# Altium footprint library MOS motor driving module.PcbLib: 14 footprints
Each footprint in its own frame and in the unit in brackets; x right, y up, seen from the top. Pads: shape width x height; smd on the part's side, far side on the other; paste and mask are expansions set on the pad; w line width, h text height; cw(c..) or ccw(c..) is an arc to the next point about the centre after c.
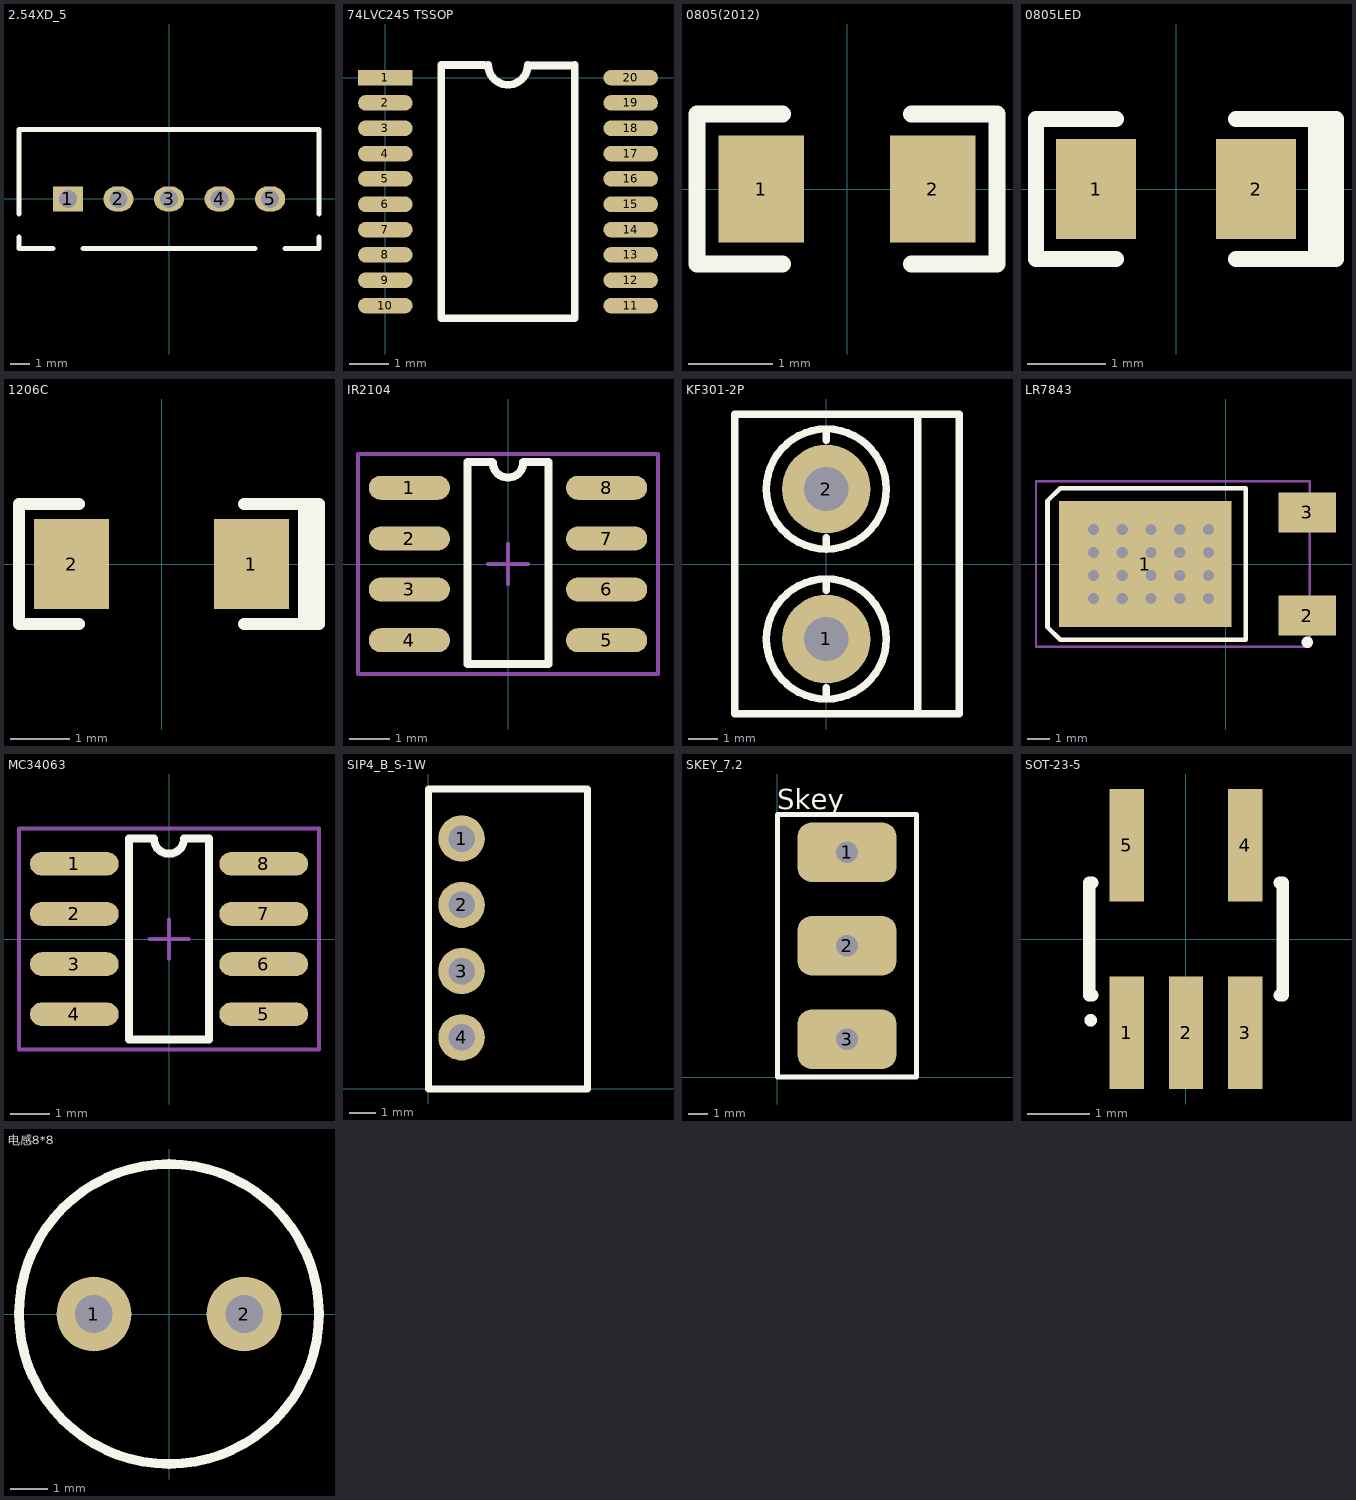
[diagram p0: the footprints below, top view; thin cyan lines are the x and y axes]

## 2.54XD_5 [mm]
pads (5):
  rect 1.5x1.27 hole 0.9: 1(-5.08,0)
  oval 1.5x1.27 hole 0.9: 2(-2.54,0) 3(0,0) 4(2.54,0)
  oval 1.524x1.27 hole 0.9: 5(5.08,0)
Top Overlay:
  lines w0.254: -7.54,-1.905 -7.54,-2.5 -5.842,-2.5 ; -7.54,-0.762 -7.54,3.5 7.54,3.5 7.54,-0.762 ; -4.318,-2.5 4.318,-2.5 ; 5.842,-2.5 7.54,-2.5 7.54,-1.905

## 74LVC245 TSSOP [mm]
pads (20):
  rect 1.4x0.4 smd: 1(0,0)
  oval 1.4x0.4 smd: 2(0,-0.65) 3(0,-1.3) 4(0,-1.95) 5(0,-2.6) 6(0,-3.25) 7(0,-3.9) 8(0,-4.55) 9(0,-5.2) 10(0,-5.85) 11(6.3,-5.85) 12(6.3,-5.2) 13(6.3,-4.55) 14(6.3,-3.9) 15(6.3,-3.25) 16(6.3,-2.6) 17(6.3,-1.95) 18(6.3,-1.3) 19(6.3,-0.65) 20(6.3,0)
Top Overlay:
  lines w0.2: 2.54,0.325 1.435,0.325 1.435,-6.175 4.865,-6.175 4.865,0.325 ; 2.642,0.325 ccw(c3.15,0.325) 3.658,0.325 ; 3.683,0.31 4.788,0.31

## 0805(2012) [mil]
pads (2):
  rect 40x50 smd: 1(-40,0) 2(40,0)
Top Overlay:
  lines w7.87: -70,-35 -30,-35 ; -70,35 -30,35 ; 30,-35 70,-35 ; 30,35 70,35
  lines w8: -70,-35 -70,35 ; 70,-35 70,35

## 0805LED [mil]
pads (2):
  rect 40x50 smd: 1(-40,0) 2(40,0)
Top Overlay:
  lines w7.87: -70,-35 -30,-35 ; -70,35 -30,35 ; 30,-35 80,-35 ; 30,35 80,35
  lines w8: -70,-35 -70,35 ; 70,-35 70,35 ; 75,-35 75,35 ; 80,-35 80,35

## 1206C [mil]
pads (2):
  rect 50x60 smd: 1(60,0) 2(-60,0)
Top Overlay:
  lines w7.87: -95,-40 -55,-40 ; -95,40 -55,40 ; 55,-40 105,-40 ; 55,40 105,40
  lines w8: -95,-40 -95,40 ; 95,-40 95,40 ; 100,-40 100,40 ; 105,-40 105,40

## IR2104 [mil]
pads (8):
  oval 80x23.62 smd: 1(-97,75) 2(-97,25) 3(-97,-25) 4(-97,-75) 5(97,-75) 6(97,-25) 7(97,25) 8(97,75)
Top Overlay:
  lines w7.87: -40,100.39 -40,-98.43 40,-98.43 40,100.39
  lines w8: -40,100.39 -15.55,100.39 ; -15,100 ccw(c0,100) 15,100 ; 15,100.39 40,100.39
Mechanical 15:
  lines w3.94: -19.68,0 19.68,0 ; 0,-19.68 0,19.68 ; -147.64,-108.27 -147.64,108.27 147.64,108.27 147.64,-108.27 -147.64,-108.27

## KF301-2P [mm]
pads (2):
  round 3 hole 1.5: 1(0,-2.54) 2(0,2.54)
Top Overlay:
  circle w0.254: c0,-2.54 r2.032
  circle w0.254: c0,2.54 r2.032
  lines w0.254: 0,-4.572 0,-4.191 ; 0,-0.889 0,-0.508 ; 0,0.508 0,0.889 ; 0,4.191 0,4.572 ; 3.1,-5.08 3.1,5.08 ; -3.1,-5.08 4.5,-5.08 4.5,5.08 -3.1,5.08 -3.1,-5.08

## KG5/470uF/50V [mm]

## LR7843 [mm]
pads (3):
  rect 7.6x5.55 smd: 1(-3.556,0)
  rect 2.54x1.778 smd: 2(3.6,-2.28) 3(3.6,2.28)
via -5.842,1.524 diameter 0.8 hole 0.5
via -5.842,0.508 diameter 0.8 hole 0.5
via -5.842,-0.508 diameter 0.8 hole 0.5
via -4.572,1.524 diameter 0.8 hole 0.5
via -4.572,0.508 diameter 0.8 hole 0.5
via -4.572,-0.508 diameter 0.8 hole 0.5
via -4.572,-1.524 diameter 0.8 hole 0.5
via -3.302,1.524 diameter 0.8 hole 0.5
via -3.302,0.508 diameter 0.8 hole 0.5
via -3.302,-0.508 diameter 0.8 hole 0.5
via -2.032,1.524 diameter 0.8 hole 0.5
via -2.032,0.508 diameter 0.8 hole 0.5
via -2.032,-1.524 diameter 0.8 hole 0.5
via -2.032,-0.508 diameter 0.8 hole 0.5
via -3.302,-1.524 diameter 0.8 hole 0.5
via -5.842,-1.524 diameter 0.8 hole 0.5
via -0.762,0.508 diameter 0.8 hole 0.5
via -0.762,1.524 diameter 0.8 hole 0.5
via -0.762,-0.508 diameter 0.8 hole 0.5
via -0.762,-1.524 diameter 0.8 hole 0.5
Top Overlay:
  circle w0.25: c3.6,-3.455 r0.125
  lines w0.2: -7.874,-2.794 -7.318,-3.35 0.889,-3.35 0.889,3.35 -7.318,3.35 -7.874,2.794 -7.874,-2.794
Mechanical 15:
  lines w0.1: -1.85,0 -0.85,0 ; -1.35,-0.5 -1.35,0.5 ; -8.382,-3.65 3.705,-3.65 3.705,3.65 -8.382,3.65 -8.382,-3.65

## MC34063 [mm]
pads (8):
  oval 2.25x0.6 smd: 1(-2.4,1.905) 2(-2.4,0.635) 3(-2.4,-0.635) 4(-2.4,-1.905) 5(2.4,-1.905) 6(2.4,-0.635) 7(2.4,0.635) 8(2.4,1.905)
Top Overlay:
  lines w0.203: -0.395,2.55 -1.016,2.55 -1.016,-2.55 1.016,-2.55 1.016,2.55 0.381,2.55 ; -0.381,2.54 ccw(c0,2.54) 0.381,2.54
Mechanical 15:
  lines w0.1: -0.5,0 0.5,0 ; 0,-0.5 0,0.5 ; -3.8,-2.8 3.8,-2.8 3.8,2.8 -3.8,2.8 -3.8,-2.8

## SIP4_B_S-1W [mil]
pads (4):
  round 70 hole 40: 1(50,378) 2(50,278) 3(50,178) 4(50,78)
Top Overlay:
  lines w10: 0,0 0,452.76 240,452.76 240,0 0,0

## SKEY_7.2 [mm]
pads (3):
  rrect50% 5x3 hole 1.1 square: 1(3.5,11.3) 2(3.5,6.6) 3(3.5,1.9)
Top Overlay:
  lines w0.254: 0,0 7,0 7,13.2 0,13.2 0,0
  text "Skey" at 0,13.462 h1.02

## SOT-23-5 [mm]
pads (5):
  rect 0.55x1.8 smd: 1(-0.95,-1.5) 2(0,-1.5) 3(0.95,-1.5) 4(0.95,1.5) 5(-0.95,1.5)
Top Overlay:
  circle w0.1: c-1.525,-1.3 r0.05
  lines w0.2: -1.5,-0.9 -1.55,-0.9 -1.55,0.9 -1.5,0.9 ; 1.5,-0.9 1.55,-0.9 1.55,0.9 1.5,0.9

## 电感8*8 [mm]
pads (2):
  round 2 hole 1: 1(-2,0) 2(2,0)
Top Overlay:
  circle w0.254: c0,0 r4